# Altium footprint library AMPHENOL RJLSE4238101T.PCBLIB: 1 footprints
Each footprint in its own frame and in the unit in brackets; x right, y up, seen from the top. Pads: shape width x height; smd on the part's side, far side on the other; paste and mask are expansions set on the pad; w line width, h text height; cw(c..) or ccw(c..) is an arc to the next point about the centre after c.
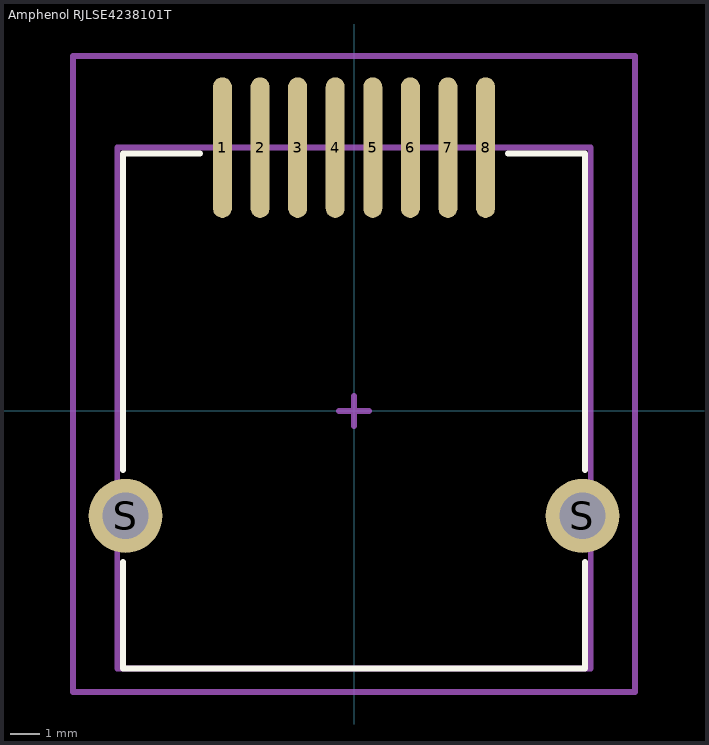
[diagram p0: the footprint, top view; thin cyan lines are the x and y axes]

## Amphenol RJLSE4238101T [mm] "Surface mount modular jack with shield"
height 11.93
pads (10):
  oval 0.64x4.75 smd: 1(-4.445,8.9) 2(-3.175,8.9) 3(-1.905,8.9) 4(-0.635,8.9) 5(0.635,8.9) 6(1.905,8.9) 7(3.175,8.9) 8(4.445,8.9)
  round 2.5 hole 1.57: S(-7.72,-3.545) S(7.72,-3.545)
Top Overlay:
  lines w0.2: -7.8,-5.1 -7.8,-8.7 0.6,-8.7 7.8,-8.7 7.8,-5.1 ; -7.8,-2 -7.8,8.7 -5.2,8.7 ; 5.2,8.7 7.8,8.7 7.8,-2
Mechanical 13:
  lines w0.2: -8,-8.7 8,-8.7 8,8.9 -8,8.9 -8,-8.7
Mechanical 15:
  lines w0.2: -0.5,0 0.5,0 ; 0,-0.5 0,0.5 ; -9.5,-9.5 0,-9.5 9.5,-9.5 9.5,12 -9.5,12 -9.5,-9.5
3D body "Amphenol RJLSE4238101T.STEP": height 11.76, standoff -2.19, extent -8.051,-8.701 8.049,9.863